# EAGLE library part WS3080EESA (library serial_interfaces)
MSOP-8 RS-485/RS-422 ICs ROHS
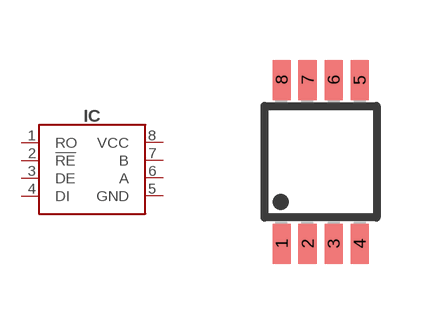
[diagram p5: symbol with the pads of VSSOP8; footprint VSSOP8]

Designator prefix IC

## WS3080EESA-MSOP8 (LCSC#: C2691414; MANF: GEC; MANF#: WS3080EESA)  [VSSOP8]
1  RO  out
2  !RE  in
3  DE  in
4  DI  in
5  GND  sup
6  A
7  B
8  VCC  sup

## Footprint VSSOP8 (pad centres in mm)
Micro Small Outline Package Grid .65mm
smd 0.45 x 1: 1 -0.975,-2.05; 2 -0.325,-2.05; 3 0.325,-2.05; 4 0.975,-2.05; 5 0.975,2.05; 6 0.325,2.05; 7 -0.325,2.05; 8 -0.975,2.05